# EAGLE library part LTC3407-2 (library IC)
Linear Tech. LTC3407-2 Dual Synchronous, 800mA, 2.25MHz Step-Down DC/DC Regulator
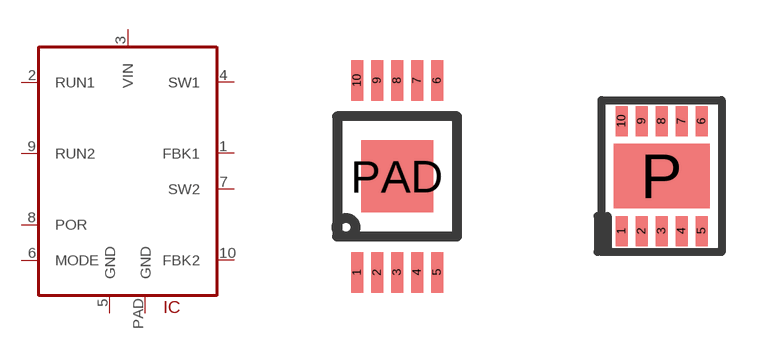
[diagram p90: symbol with the pads of MSOP-10_PWP; footprints MSOP-10_PWP, DFN10]

Designator prefix IC

## LTC3407-2  [MSOP-10_PWP]
1  FBK1
2  RUN1
3  VIN  pwr
4  SW1  pwr
5  GND  pwr
6  MODE
7  SW2  pwr
8  POR
9  RUN2
10  FBK2
PAD  GND  pwr

## LTC3407-2-DD  [DFN10]
1  FBK1
2  RUN1
3  VIN  pwr
4  SW1  pwr
5  GND  pwr
6  MODE
7  SW2  pwr
8  POR
9  RUN2
10  FBK2
P  GND  pwr

## Footprint MSOP-10_PWP (pad centres in mm)
10 pin MSOP with thermal pad
smd 0.3 x 1.02: 1 -1,-2.4; 2 -0.5,-2.4; 3 0,-2.4; 4 0.5,-2.4; 5 1,-2.4; 6 1,2.4; 7 0.5,2.4; 8 0,2.4; 9 -0.5,2.4; 10 -1,2.4
smd 1.8 x 1.8: PAD 0,0

## Footprint DFN10 (pad centres in mm)
DFN 10 lead package, Linear Tech
smd 0.3 x 0.75: 1 -1,-1.375; 2 -0.5,-1.375; 3 0,-1.375; 4 0.5,-1.375; 5 1,-1.375; 6 1,1.375; 7 0.5,1.375; 8 0,1.375; 9 -0.5,1.375; 10 -1,1.375
smd 2.4 x 1.6: P 0,0